# EAGLE library part ATTINY1634 (library pimoroni)
ATTINY1634 16kB 12MHz I2C/SPI/UART
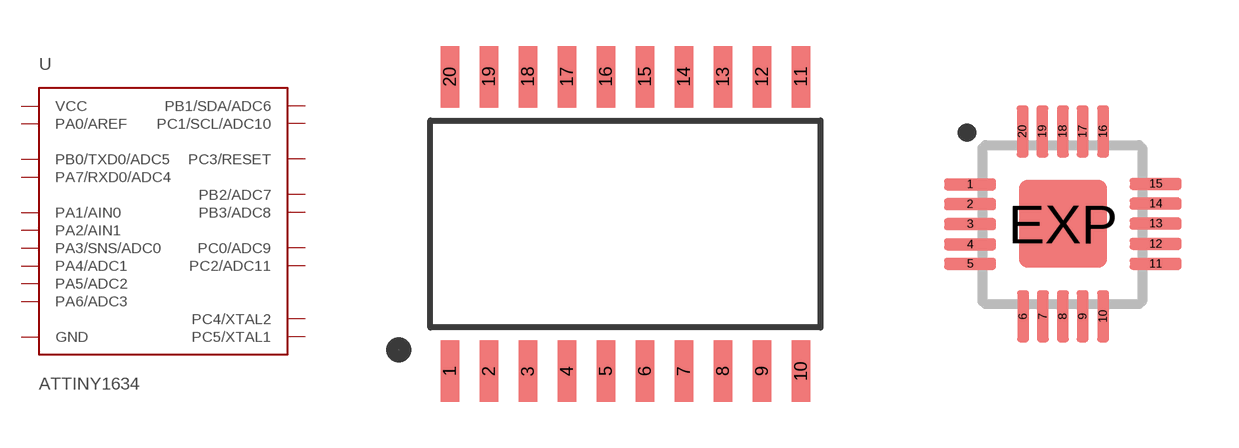
[diagram p9: symbol with the pads of SOIC-20-W; footprints SOIC-20-W, MLF20-4X4-TH]

Designator prefix U

## ATTINY1634-SOIC-20-W (PROD_ID: IC-11305; VALUE: ATTINY1634)  [SOIC-20-W]
1  PB0/TXD0/ADC5
2  PA7/RXD0/ADC4
3  PA6/ADC3
4  PA5/ADC2
5  PA4/ADC1
6  PA3/SNS/ADC0
7  PA2/AIN1
8  PA1/AIN0
9  PA0/AREF
10  GND
11  VCC
12  PC5/XTAL1
13  PC4/XTAL2
14  PC3/RESET
15  PC2/ADC11
16  PC1/SCL/ADC10
17  PC0/ADC9
18  PB3/ADC8
19  PB2/ADC7
20  PB1/SDA/ADC6

## ATTINY1634-MLF-20 (PROD_ID: IC-11305; VALUE: ATTINY1634)  [MLF20-4X4-TH]
1  PA6/ADC3
2  PA5/ADC2
3  PA4/ADC1
4  PA3/SNS/ADC0
5  PA2/AIN1
6  PA1/AIN0
7  PA0/AREF
8  GND
9  VCC
10  PC5/XTAL1
11  PC4/XTAL2
12  PC3/RESET
13  PC2/ADC11
14  PC1/SCL/ADC10
15  PC0/ADC9
16  PB3/ADC8
17  PB2/ADC7
18  PB1/SDA/ADC6
19  PB0/TXD0/ADC5
20  PA7/RXD0/ADC4
EXP  GND

## Footprint SOIC-20-W (pad centres in mm)
SMALL OUTLINE PACKAGE
smd 0.6 x 2: 1 -5.715,-4.5; 2 -4.445,-4.5; 3 -3.175,-4.5; 4 -1.905,-4.5; 5 -0.635,-4.5; 6 0.635,-4.5; 7 1.905,-4.5; 8 3.175,-4.5; 9 4.445,-4.5; 10 5.715,-4.5; 11 5.715,5.1; 12 4.445,5.1; 13 3.175,5.1; 14 1.905,5.1; 15 0.635,5.1; 16 -0.635,5.1; 17 -1.905,5.1; 18 -3.175,5.1; 19 -4.445,5.1; 20 -5.715,5.1

## Footprint MLF20-4X4-TH (pad centres in mm)
HP-VFQFP-N20 QFN 20 -5 x 5 mm Micro Lead Frame package (MLF) Source: http://www.atmel.com/dyn/resources/prod_documents/doc4533.pdf
smd 1.3 x 0.3: 1 -3.324,-0.008; 2 -3.324,-0.506; 3 -3.324,-1.003; 4 -3.324,-1.514; 5 -3.324,-1.998; 11 1.317,-1.998; 12 1.317,-1.501; 13 1.317,-0.991; 14 1.317,-0.493; 15 1.317,0.005
smd 0.3 x 1.3: 6 -1.998,-3.311; 7 -1.501,-3.311; 8 -1.003,-3.311; 9 -0.506,-3.311; 10 0.005,-3.311; 16 0.005,1.317; 17 -0.506,1.317; 18 -1.003,1.317; 19 -1.514,1.317; 20 -2.011,1.317
smd 2.2 x 2.2: EXP -1,-1